# Altium schematic symbol library J_Tag.SchLib: 28 symbols
Pins are listed as number, name and electrical type; pins without a type are passive.

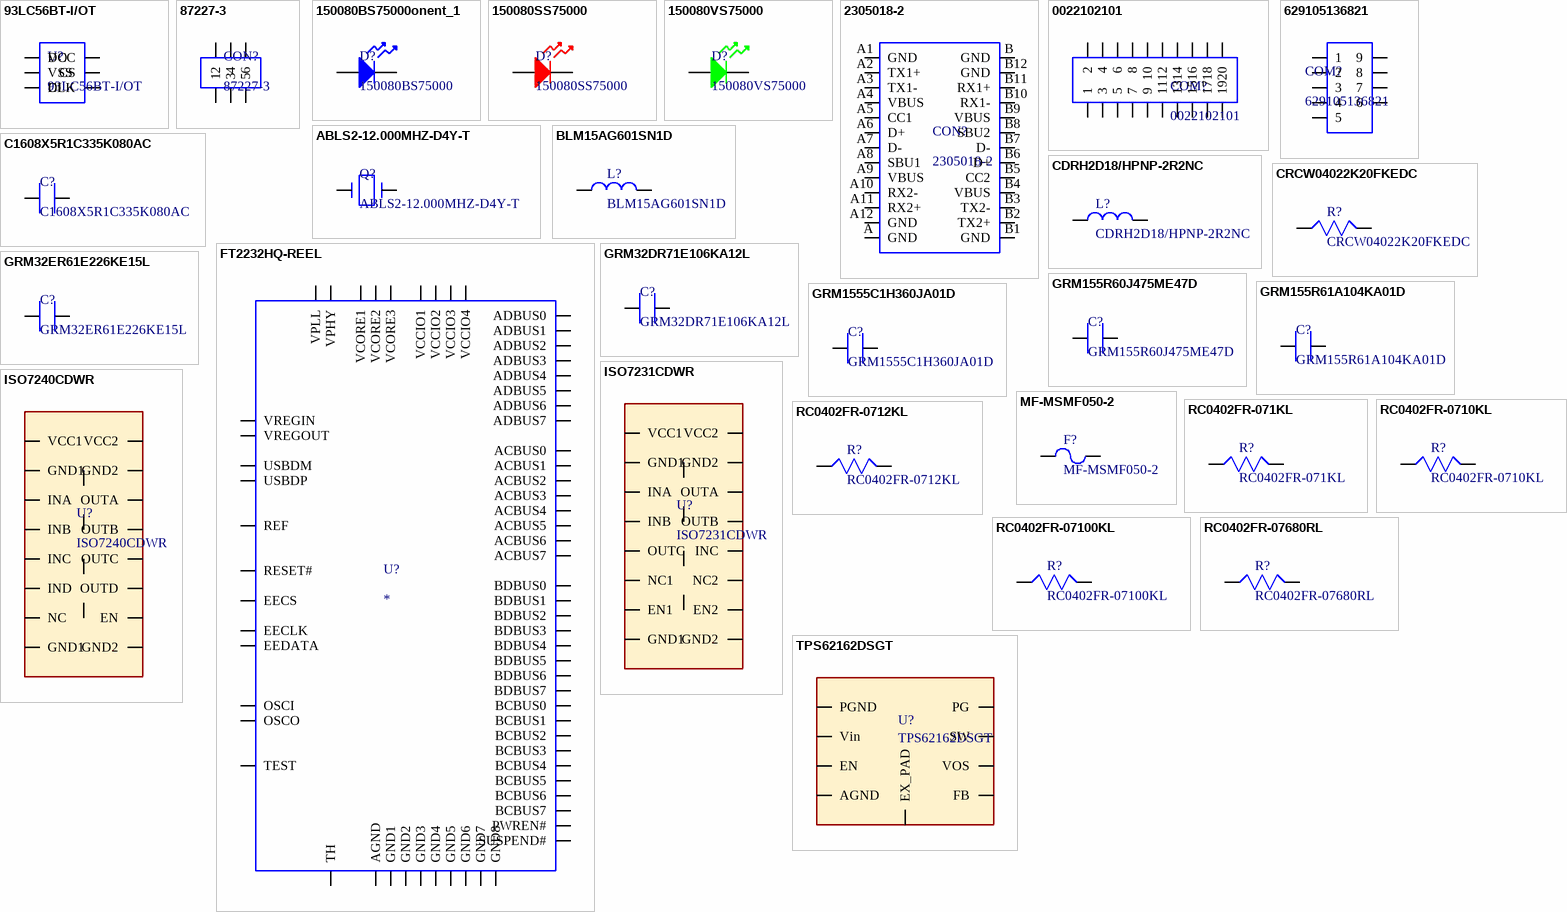
[diagram p0: symbols 93LC56BT-I/OT to TPS62162DSGT]

## 93LC56BT-I/OT
designator U?
IC memorija; Supplier 1: Digi-Key; Supplier Part Number 1: 93LC56BT-I/OTDKR-ND
footprint 93LC56BT-I/OT (IC EEPROM 2K SPI 2MHZ SOT23-6)
pins: CLK, CS, DI, DO, VCC, VSS

## 87227-3
designator CON?
Heder, 3x2, M; Supplier 1: Digi-Key; Supplier Part Number 1: A26569-ND
footprint 87227-3 (CONN HEADER VERT 6POS 2.54MM)
pins: 1, 2, 3, 4, 5, 6

## 150080BS75000onent_1
designator D?, comment 150080BS75000
BLUE LED; Supplier 1: Digi-Key; Supplier Part Number 1: 732-4982-6-ND
footprint 150080BS75000 (LED BLUE CLEAR 0805 SMD)
pins: A, K

## 150080SS75000
designator D?
RED LED; Supplier 1: Digi-Key; Supplier Part Number 1: 732-4985-6-ND
footprint 150080SS75000 (LED RED CLEAR 0805 SMD)
pins: A, K

## 150080VS75000
designator D?
GREEN LED; Supplier 1: Digi-Key; Supplier Part Number 1: 732-4986-6-ND
footprint 150080VS75000 (Footprint not found)
pins: A, K

## 2305018-2
designator CON?
USB C konektor; Supplier 1: Digi-Key; Supplier Part Number 1: A132569DKR-ND
footprint 2305018-2 (CONN RCP USB3.1 TYPEC 24P SMD RA)
pins: A GND, A1 GND, A2 TX1+, A3 TX1-, A4 VBUS, A5 CC1, A6 D+, A7 D-, A8 SBU1, A9 VBUS, A10 RX2-, A11 RX2+, A12 GND, B GND, B1 GND, B2 TX2+, B3 TX2-, B4 VBUS, B5 CC2, B6 D+, B7 D-, B8 SBU2, B9 VBUS, B10 RX1-, B11 RX1+, B12 GND

## 0022102101
designator COM?
Hederi 10 pozicija; Supplier 1: Digi-Key; Supplier Part Number 1: WM2730-ND
footprint 0022102101 (Heder 10 pozicija)
pins: 1, 2, 3, 4, 5, 6, 7, 8, 9, 10, 11, 12, 13, 14, 15, 16, 17, 18, 19, 20

## 629105136821
designator COM?
USB B mikro konektor; Supplier 1: Digi-Key; Supplier Part Number 1: 732-3155-6-ND
footprint 629105136821 (CONN RCPT USB2.0 MICRO B SMD R/A)
pins: 1, 2, 3, 4, 5, 6, 7, 8, 9

## ABLS2-12.000MHZ-D4Y-T
designator Q?
Oscilator 12MHz; Supplier 1: Digi-Key; Supplier Part Number 1: 535-9869-6-ND
footprint ABLS2-12.000MHZ-D4Y-T (CRYSTAL 12.0000MHZ 18PF SMD)
pins: 1, 2

## BLM15AG601SN1D
designator L?
L1, L2; Supplier 1: Digi-Key; Supplier Part Number 1: 490-1006-6-ND
footprint BLM15AG601SN1D (FERRITE BEAD 600 OHM 0402 1LN)
pins: 1, 2

## C1608X5R1C335K080AC
designator C?
C15; Supplier 1: Digi-Key; Supplier Part Number 1: 445-7476-6-ND
footprint C1608X5R1C335K080AC (CAP CER 3.3UF 16V X5R 0603)
pins: 1, 2

## CDRH2D18/HPNP-2R2NC
designator L?
L7; Supplier 1: Digi-Key; Supplier Part Number 1: 308-2295-6-ND
footprint CDRH2D18/HPNP-2R2NC (FIXED IND 2.2UH 1.9A 60 MOHM SMD)
pins: 1, 2

## CRCW04022K20FKEDC
designator R?
R31; Supplier 1: Digi-Key; Supplier Part Number 1: 541-3971-6-ND
footprint CRCW04022K20FKEDC (RES SMD 2.2K OHM 1% 1/16W 0402)
pins: 1, 2

## FT2232HQ-REEL
designator U?
IC kontroler; Supplier 1: Digi-Key; Supplier Part Number 1: 768-1025-6-ND
footprint FT2232HQ-REEL (IC USB HS DUAL UART/FIFO 64-QFN)
pins: ACBUS0, ACBUS1, ACBUS2, ACBUS3, ACBUS4, ACBUS5, ACBUS6, ACBUS7, ADBUS0, ADBUS1, ADBUS2, ADBUS3, ADBUS4, ADBUS5, ADBUS6, ADBUS7, AGND, BCBUS0, BCBUS1, BCBUS2, BCBUS3, BCBUS4, BCBUS5, BCBUS6, BCBUS7, BDBUS0, BDBUS1, BDBUS2, BDBUS3, BDBUS4, BDBUS5, BDBUS6, BDBUS7, EECLK, EECS, EEDATA, GND1, GND2, GND3, GND4, GND5, GND6, GND7, GND8, OSCI, OSCO, PWREN#, REF, RESET#, SUSPEND#, TEST, TH, USBDM, USBDP, VCCIO1, VCCIO2, VCCIO3, VCCIO4, VCORE1, VCORE2, VCORE3, VPHY, VPLL, VREGIN, VREGOUT

## GRM32DR71E106KA12L
designator C?
C41, C44, 10u; Supplier 1: Digi-Key; Supplier Part Number 1: 490-1867-6-ND
footprint GRM32DR71E106KA12L (CAP CER 10UF 25V X7R 1210)
pins: 1, 2

## GRM32ER61E226KE15L
designator C?
C45; Supplier 1: Digi-Key; Supplier Part Number 1: 490-3889-6-ND
footprint GRM32ER61E226KE15L (CAP CER 22UF 25V X5R 1210)
pins: 1, 2

## GRM155R60J475ME47D
designator C?
C10, C11; Supplier 1: Digi-Key; Supplier Part Number 1: 490-5915-1-ND
footprint GRM155R60J475ME47D (CAP CER 4.7UF 6.3V X5R 0402)
pins: 1, 2

## GRM155R61A104KA01D
designator C?
C12, C13, C14, C16, C43; Supplier 1: Digi-Key; Supplier Part Number 1: 490-1318-6-ND
footprint GRM155R61A104KA01D (CAP CER 0.1UF 10V X5R 0402)
pins: 1, 2

## GRM1555C1H360JA01D
designator C?
C17, C18; Supplier 1: Digi-Key; Supplier Part Number 1: 490-6044-6-ND
footprint GRM1555C1H360JA01D (CAP CER 36PF 50V C0G/NP0 0402)
pins: 1, 2

## ISO7231CDWR
designator U?
Izolator; Supplier 1: Digi-Key; Supplier Part Number 1: 296-38966-6-ND
footprint ISO7231CDWR (Izolator)
pins: EN1, EN2, GND1, GND1, GND2, GND2, INA, INB, INC, NC1, NC2, OUTA, OUTB, OUTC, VCC1, VCC2

## ISO7240CDWR
designator U?
Izolator; Supplier 1: Digi-Key; Supplier Part Number 1: 296-38555-6-ND
footprint ISO7240CDWR (Izolator)
pins: EN, GND1, GND1, GND2, GND2, INA, INB, INC, IND, NC, OUTA, OUTB, OUTC, OUTD, VCC1, VCC2

## MF-MSMF050-2
designator F?
F1; Supplier 1: Digi-Key; Supplier Part Number 1: MF-MSMF050-2DKR-ND
footprint MF-MSMF050-2 (Footprint not found)
pins: 1, 2

## RC0402FR-071KL
designator R?
R22, R23, 1K; Supplier 1: Digi-Key; Supplier Part Number 1: 311-1.00KLRDKR-ND
footprint RC0402FR-071KL (RES SMD 1K OHM 1% 1/16W 0402)
pins: 1, 2

## RC0402FR-0710KL
designator R?
R12, 10K; Supplier 1: Digi-Key; Supplier Part Number 1: 311-10.0KLRDKR-ND
footprint RC0402FR-0710KL (RES SMD 10K OHM 1% 1/16W 0402)
pins: 1, 2

## RC0402FR-0712KL
designator R?
Supplier 1: Digi-Key; Supplier Part Number 1: 311-12.0KLRDKR-ND
footprint RC0402FR-0712KL (RES SMD 12K OHM 1% 1/16W 0402)
pins: 1, 2

## RC0402FR-07100KL
designator R?
R47, 100K; Supplier 1: Digi-Key; Supplier Part Number 1: 311-100KLRDKR-ND
footprint RC0402FR-07100KL (RES SMD 100K OHM 1% 1/16W 0402)
pins: 1, 2

## RC0402FR-07680RL
designator R?
R26, R27, R46, RC0402FR-07680RL; Supplier 1: Digi-Key; Supplier Part Number 1: 311-680LRDKR-ND
footprint RC0402FR-07680RL (RES SMD 680 OHM 1% 1/16W 0402)
pins: 1, 2

## TPS62162DSGT
designator U?
DC-DC Buck; Supplier 1: Digi-Key; Supplier Part Number 1: 296-29897-1-ND
footprint TPS62162DSGT (DC-DC Buck)
pins: AGND, EN, EX_PAD, FB, PG, PGND, SW, Vin, VOS